# EAGLE library part WE-FLEX_EFD20 (library Eagle_WE-FLEX (rev24a))
WE-FLEX Flexible Transformer for DC/DC Converter Characteristics Transformer with 6 identical windings 4 sizes with 5 different lengths of air gap each Isolation voltage 500 VDC Low leakage inductance Operating temperature: –40 ºC to +125 ºC By using different circuits more than 375 transformer solutions and about 125 choke solutions possible. Consequently, quick prototyping possibilities Applications All kind of switching regulators - Flyback converters - Forward converters - Push-pull converters - Step-up/step-down converters - SEPIC converter <https://www.we-online.com/components/media/o14787v209%20Family_WE-FLEX.jpg> Details see: www.we-online.com/en/components/products/WE-FLEX <www.we-online.com/catalog/WE-FLEX/?utm_source=eagle_model&utm_medium=description_link&utm_campaign=eisos_eagle> Updated by Ella 2024-09-27 2024 (C) Wurth Elektronik
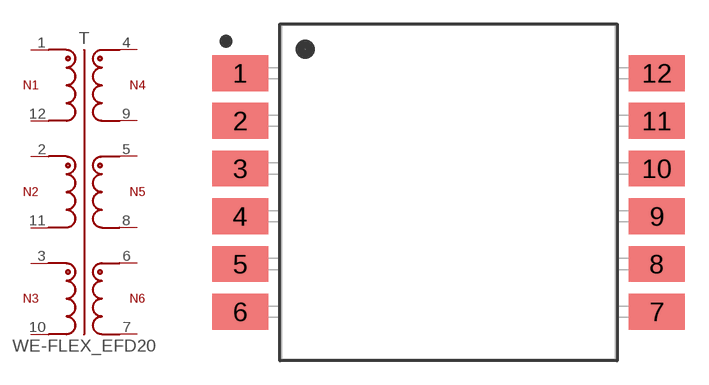
[diagram p3: symbol with the pads of WE-FLEX_EFD20; footprint WE-FLEX_EFD20]

Designator prefix T

## WE-FLEX_EFD20_749196500 (DATASHEET-URL: https://www.we-online.com/redexpert/spec/749196500?ae; HEIGHT: 10.8mm; IRBASE: 1.91A; ISATBASE: 0.03A; LENGTH: 21mm; LSBASE: 0.18uH; N: 1:1:1:1:1:1; PART-NUMBER: 749196500; RDCBASE: 30mOhm; SIZE: EFD20; TYPE: ungapped; VALUE: 87.1uH; VOLTAGE-USECONDBASE: 65.6uVs; VT: 500V (AC); WIDTH: 29.5mm), WE-FLEX_EFD20_749196501 (DATASHEET-URL: https://www.we-online.com/redexpert/spec/749196501?ae; HEIGHT: 10.8mm; IRBASE: 1.7A; ISATBASE: 0.02A; LENGTH: 21mm; LSBASE: 0.24uH; N: 1:1:1:1:1:1; PART-NUMBER: 749196501; RDCBASE: 71.1mOhm; SIZE: EFD20; TYPE: ungapped; VALUE: 196uH; VOLTAGE-USECONDBASE: 98.4uVs; VT: 500V (AC); WIDTH: 29.5mm), WE-FLEX_EFD20_749196510 (DATASHEET-URL: https://www.we-online.com/redexpert/spec/749196510?ae; HEIGHT: 10.8mm; IRBASE: 1.91A; ISATBASE: 1.17A; LENGTH: 21mm; LSBASE: 0.18uH; N: 1:1:1:1:1:1; PART-NUMBER: 749196510; RDCBASE: 30mOhm; SIZE: EFD20; TYPE: gapped; VALUE: 9.9uH; VOLTAGE-USECONDBASE: 65.6uVs; VT: 500V (AC); WIDTH: 29.5mm), WE-FLEX_EFD20_749196511 (DATASHEET-URL: https://www.we-online.com/redexpert/spec/749196511?ae; HEIGHT: 10.8mm; IRBASE: 1.7A; ISATBASE: 0.49A; LENGTH: 21mm; LSBASE: 0.24uH; N: 1:1:1:1:1:1; PART-NUMBER: 749196511; RDCBASE: 71.1mOhm; SIZE: EFD20; TYPE: gapped; VALUE: 22.3uH; VOLTAGE-USECONDBASE: 98.4uVs; VT: 500V (AC); WIDTH: 29.5mm), WE-FLEX_EFD20_749196520 (DATASHEET-URL: https://www.we-online.com/redexpert/spec/749196520?ae; HEIGHT: 10.8mm; IRBASE: 1.91A; ISATBASE: 2.53A; LENGTH: 21mm; LSBASE: 0.18uH; N: 1:1:1:1:1:1; PART-NUMBER: 749196520; RDCBASE: 30mOhm; SIZE: EFD20; TYPE: gapped; VALUE: 5.3uH; VOLTAGE-USECONDBASE: 65.6uVs; VT: 500V (AC); WIDTH: 29.5mm), WE-FLEX_EFD20_749196521 (DATASHEET-URL: https://www.we-online.com/redexpert/spec/749196521?ae; HEIGHT: 10.8mm; IRBASE: 1.7A; ISATBASE: 1.73A; LENGTH: 21mm; LSBASE: 0.24uH; N: 1:1:1:1:1:1; PART-NUMBER: 749196521; RDCBASE: 71.1mOhm; SIZE: EFD20; TYPE: gapped; VALUE: 12uH; VOLTAGE-USECONDBASE: 98.4uVs; VT: 500V (AC); WIDTH: 29.5mm), WE-FLEX_EFD20_749196530 (DATASHEET-URL: https://www.we-online.com/redexpert/spec/749196530?ae; HEIGHT: 10.8mm; IRBASE: 1.91A; ISATBASE: 2.91A; LENGTH: 21mm; LSBASE: 0.18uH; N: 1:1:1:1:1:1; PART-NUMBER: 749196530; RDCBASE: 30mOhm; SIZE: EFD20; TYPE: gapped; VALUE: 4.3uH; VOLTAGE-USECONDBASE: 65.6uVs; VT: 500V (AC); WIDTH: 29.5mm), WE-FLEX_EFD20_749196531 (DATASHEET-URL: https://www.we-online.com/redexpert/spec/749196531?ae; HEIGHT: 10.8mm; IRBASE: 1.7A; ISATBASE: 2.2A; LENGTH: 21mm; LSBASE: 0.24uH; N: 1:1:1:1:1:1; PART-NUMBER: 749196531; RDCBASE: 71.1mOhm; SIZE: EFD20; TYPE: gapped; VALUE: 9.7uH; VOLTAGE-USECONDBASE: 98.4uVs; VT: 500V (AC); WIDTH: 29.5mm), WE-FLEX_EFD20_749196540 (DATASHEET-URL: https://www.we-online.com/redexpert/spec/749196540?ae; HEIGHT: 10.8mm; IRBASE: 1.91A; ISATBASE: 4.18A; LENGTH: 21mm; LSBASE: 0.18uH; N: 1:1:1:1:1:1; PART-NUMBER: 749196540; RDCBASE: 30mOhm; SIZE: EFD20; TYPE: gapped; VALUE: 3.4uH; VOLTAGE-USECONDBASE: 65.6uVs; VT: 500V (AC); WIDTH: 29.5mm), WE-FLEX_EFD20_749196541 (DATASHEET-URL: https://www.we-online.com/redexpert/spec/749196541?ae; HEIGHT: 10.8mm; IRBASE: 1.7A; ISATBASE: 2.46A; LENGTH: 21mm; LSBASE: 0.24uH; N: 1:1:1:1:1:1; PART-NUMBER: 749196541; RDCBASE: 71.1mOhm; SIZE: EFD20; TYPE: gapped; VALUE: 7.6uH; VOLTAGE-USECONDBASE: 98.4uVs; VT: 500V (AC); WIDTH: 29.5mm)  [WE-FLEX_EFD20]
1  1  pas
2  2  pas
3  3  pas
4  4  pas
5  5  pas
6  6  pas
7  7  pas
8  8  pas
9  9  pas
10  10  pas
11  11  pas
12  12  pas

## Footprint WE-FLEX_EFD20 (pad centres in mm)
WE-FLEX Flexible Transformer for DC/DC Converter Size: EFD20 SMT 12pins LXWXH=21X29.5X10.8mm
smd 3.5 x 2.25: 1 -13.1,7.5; 2 -13.1,4.5; 3 -13.1,1.5; 4 -13.1,-1.5; 5 -13.1,-4.5; 6 -13.1,-7.5; 7 13.1,-7.5; 8 13.1,-4.5; 9 13.1,-1.5; 10 13.1,1.5; 11 13.1,4.5; 12 13.1,7.5